# Altium schematic symbol library CVCO55CW.SchLib: 1 symbol
Pins are listed as number, name and electrical type; pins without a type are passive.

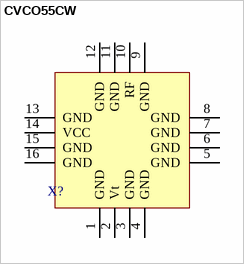
[diagram p0: symbol CVCO55CW]

## CVCO55CW
designator X?  (value not drawn)
pins: 1 GND, 2 Vt, 3 GND, 4 GND, 5 GND, 6 GND, 7 GND, 8 GND, 9 GND, 10 RF, 11 GND, 12 GND, 13 GND, 14 VCC, 15 GND, 16 GND